# Altium footprint library csr.PCBLIB: 1 footprints
Each footprint in its own frame and in the unit in brackets; x right, y up, seen from the top. Pads: shape width x height; smd on the part's side, far side on the other; paste and mask are expansions set on the pad; w line width, h text height; cw(c..) or ccw(c..) is an arc to the next point about the centre after c.
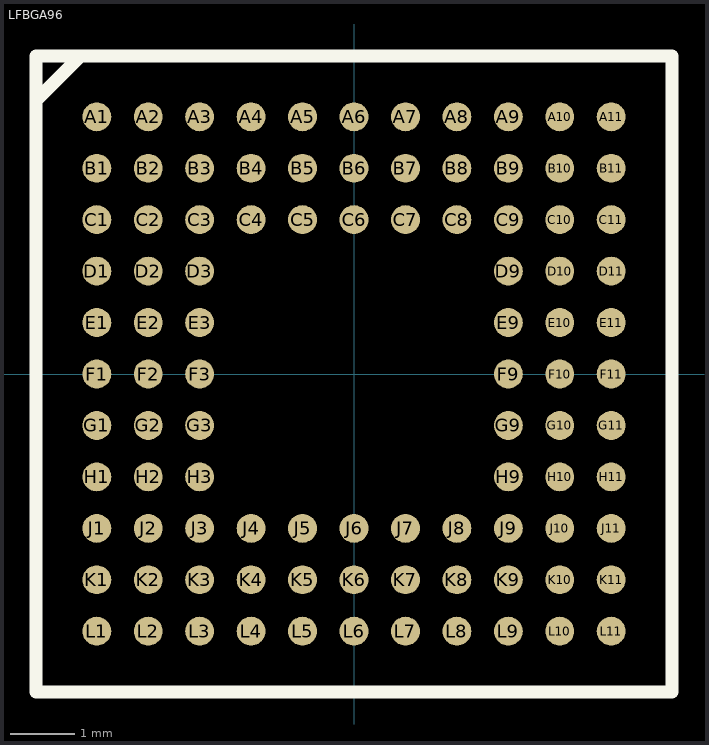
[diagram p0: the footprint, top view; thin cyan lines are the x and y axes]

## LFBGA96 [mm]
pads (96):
  rrect100% 0.45x0.45 smd: A1(-4,4) A2(-3.2,4) A3(-2.4,4) A4(-1.6,4) A5(-0.8,4) A6(0,4) A7(0.8,4) A8(1.6,4) A9(2.4,4) A10(3.2,4) A11(4,4) B1(-4,3.2) B2(-3.2,3.2) B3(-2.4,3.2) B4(-1.6,3.2) B5(-0.8,3.2) B6(0,3.2) B7(0.8,3.2) B8(1.6,3.2) B9(2.4,3.2) B10(3.2,3.2) B11(4,3.2) C1(-4,2.4) C2(-3.2,2.4) C3(-2.4,2.4) C4(-1.6,2.4) C5(-0.8,2.4) C6(0,2.4) C7(0.8,2.4) C8(1.6,2.4) C9(2.4,2.4) C10(3.2,2.4) C11(4,2.4) D1(-4,1.6) D2(-3.2,1.6) D3(-2.4,1.6) D9(2.4,1.6) D10(3.2,1.6) D11(4,1.6) E1(-4,0.8) E2(-3.2,0.8) E3(-2.4,0.8) E9(2.4,0.8) E10(3.2,0.8) E11(4,0.8) F1(-4,0) F2(-3.2,0) F3(-2.4,0) F9(2.4,0) F10(3.2,0) F11(4,0) G1(-4,-0.8) G2(-3.2,-0.8) G3(-2.4,-0.8) G9(2.4,-0.8) G10(3.2,-0.8) G11(4,-0.8) H1(-4,-1.6) H2(-3.2,-1.6) H3(-2.4,-1.6) H9(2.4,-1.6) H10(3.2,-1.6) H11(4,-1.6) J1(-4,-2.4) J2(-3.2,-2.4) J3(-2.4,-2.4) J4(-1.6,-2.4) J5(-0.8,-2.4) J6(0,-2.4) J7(0.8,-2.4) J8(1.6,-2.4) J9(2.4,-2.4) J10(3.2,-2.4) J11(4,-2.4) K1(-4,-3.2) K2(-3.2,-3.2) K3(-2.4,-3.2) K4(-1.6,-3.2) K5(-0.8,-3.2) K6(0,-3.2) K7(0.8,-3.2) K8(1.6,-3.2) K9(2.4,-3.2) K10(3.2,-3.2) K11(4,-3.2) L1(-4,-4) L2(-3.2,-4) L3(-2.4,-4) L4(-1.6,-4) L5(-0.8,-4) L6(0,-4) L7(0.8,-4) L8(1.6,-4) L9(2.4,-4) L10(3.2,-4) L11(4,-4)
Top Overlay:
  lines w0.203: -4.948,4.25 -4.948,4.948 -4.25,4.948 ; -4.948,4.25 -4.948,-4.948 4.948,-4.948 4.948,4.948 -4.25,4.948 ; -4.948,4.25 -4.25,4.948
Top Solder:
  circle w0: c4,-4 r0.175
  circle w0: c3.2,-4 r0.175
  circle w0: c2.4,-4 r0.175
  circle w0: c1.6,-4 r0.175
  circle w0: c0.8,-4 r0.175
  circle w0: c0,-4 r0.175
  circle w0: c-0.8,-4 r0.175
  circle w0: c-1.6,-4 r0.175
  circle w0: c-2.4,-4 r0.175
  circle w0: c-3.2,-4 r0.175
  circle w0: c-4,-4 r0.175
  circle w0: c4,-3.2 r0.175
  circle w0: c3.2,-3.2 r0.175
  circle w0: c2.4,-3.2 r0.175
  circle w0: c1.6,-3.2 r0.175
  circle w0: c0.8,-3.2 r0.175
  circle w0: c0,-3.2 r0.175
  circle w0: c-0.8,-3.2 r0.175
  circle w0: c-1.6,-3.2 r0.175
  circle w0: c-2.4,-3.2 r0.175
  circle w0: c-3.2,-3.2 r0.175
  circle w0: c-4,-3.2 r0.175
  circle w0: c4,-2.4 r0.175
  circle w0: c3.2,-2.4 r0.175
  circle w0: c2.4,-2.4 r0.175
  circle w0: c1.6,-2.4 r0.175
  circle w0: c0.8,-2.4 r0.175
  circle w0: c0,-2.4 r0.175
  circle w0: c-0.8,-2.4 r0.175
  circle w0: c-1.6,-2.4 r0.175
  circle w0: c-2.4,-2.4 r0.175
  circle w0: c-3.2,-2.4 r0.175
  circle w0: c-4,-2.4 r0.175
  circle w0: c4,-1.6 r0.175
  circle w0: c3.2,-1.6 r0.175
  circle w0: c2.4,-1.6 r0.175
  circle w0: c-2.4,-1.6 r0.175
  circle w0: c-3.2,-1.6 r0.175
  circle w0: c-4,-1.6 r0.175
  circle w0: c4,-0.8 r0.175
  circle w0: c3.2,-0.8 r0.175
  circle w0: c2.4,-0.8 r0.175
  circle w0: c-2.4,-0.8 r0.175
  circle w0: c-3.2,-0.8 r0.175
  circle w0: c-4,-0.8 r0.175
  circle w0: c4,0 r0.175
  circle w0: c3.2,0 r0.175
  circle w0: c2.4,0 r0.175
  circle w0: c-2.4,0 r0.175
  circle w0: c-3.2,0 r0.175
  circle w0: c-4,0 r0.175
  circle w0: c4,0.8 r0.175
  circle w0: c3.2,0.8 r0.175
  circle w0: c2.4,0.8 r0.175
  circle w0: c-2.4,0.8 r0.175
  circle w0: c-3.2,0.8 r0.175
  circle w0: c-4,0.8 r0.175
  circle w0: c4,1.6 r0.175
  circle w0: c3.2,1.6 r0.175
  circle w0: c2.4,1.6 r0.175
  circle w0: c-2.4,1.6 r0.175
  circle w0: c-3.2,1.6 r0.175
  circle w0: c-4,1.6 r0.175
  circle w0: c4,2.4 r0.175
  circle w0: c3.2,2.4 r0.175
  circle w0: c2.4,2.4 r0.175
  circle w0: c1.6,2.4 r0.175
  circle w0: c0.8,2.4 r0.175
  circle w0: c0,2.4 r0.175
  circle w0: c-0.8,2.4 r0.175
  circle w0: c-1.6,2.4 r0.175
  circle w0: c-2.4,2.4 r0.175
  circle w0: c-3.2,2.4 r0.175
  circle w0: c-4,2.4 r0.175
  circle w0: c4,3.2 r0.175
  circle w0: c3.2,3.2 r0.175
  circle w0: c2.4,3.2 r0.175
  circle w0: c1.6,3.2 r0.175
  circle w0: c0.8,3.2 r0.175
  circle w0: c0,3.2 r0.175
  circle w0: c-0.8,3.2 r0.175
  circle w0: c-1.6,3.2 r0.175
  circle w0: c-2.4,3.2 r0.175
  circle w0: c-3.2,3.2 r0.175
  circle w0: c-4,3.2 r0.175
  circle w0: c4,4 r0.175
  circle w0: c3.2,4 r0.175
  circle w0: c2.4,4 r0.175
  circle w0: c1.6,4 r0.175
  circle w0: c0.8,4 r0.175
  circle w0: c0,4 r0.175
  circle w0: c-0.8,4 r0.175
  circle w0: c-1.6,4 r0.175
  circle w0: c-2.4,4 r0.175
  circle w0: c-3.2,4 r0.175
  circle w0: c-4,4 r0.175